# Altium schematic symbol library SKYWORKS SKY13314-374LF.SchLib: 1 symbol
Pins are listed as number, name and electrical type; pins without a type are passive.

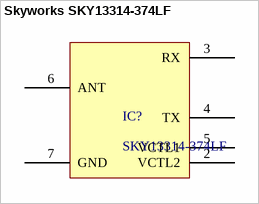
[diagram p0: symbol Skyworks SKY13314-374LF]

## Skyworks SKY13314-374LF
designator IC?, comment SKY13314-374LF
0.1 to 6.0 GHz GaAs SPDT Switch
pins: 2 VCTL2, 3 RX, 4 TX, 5 VCTL1, 6 ANT, 7 GND